# Altium integrated library NSC LDO.IntLib: 1202 symbols (part 22 of 27)
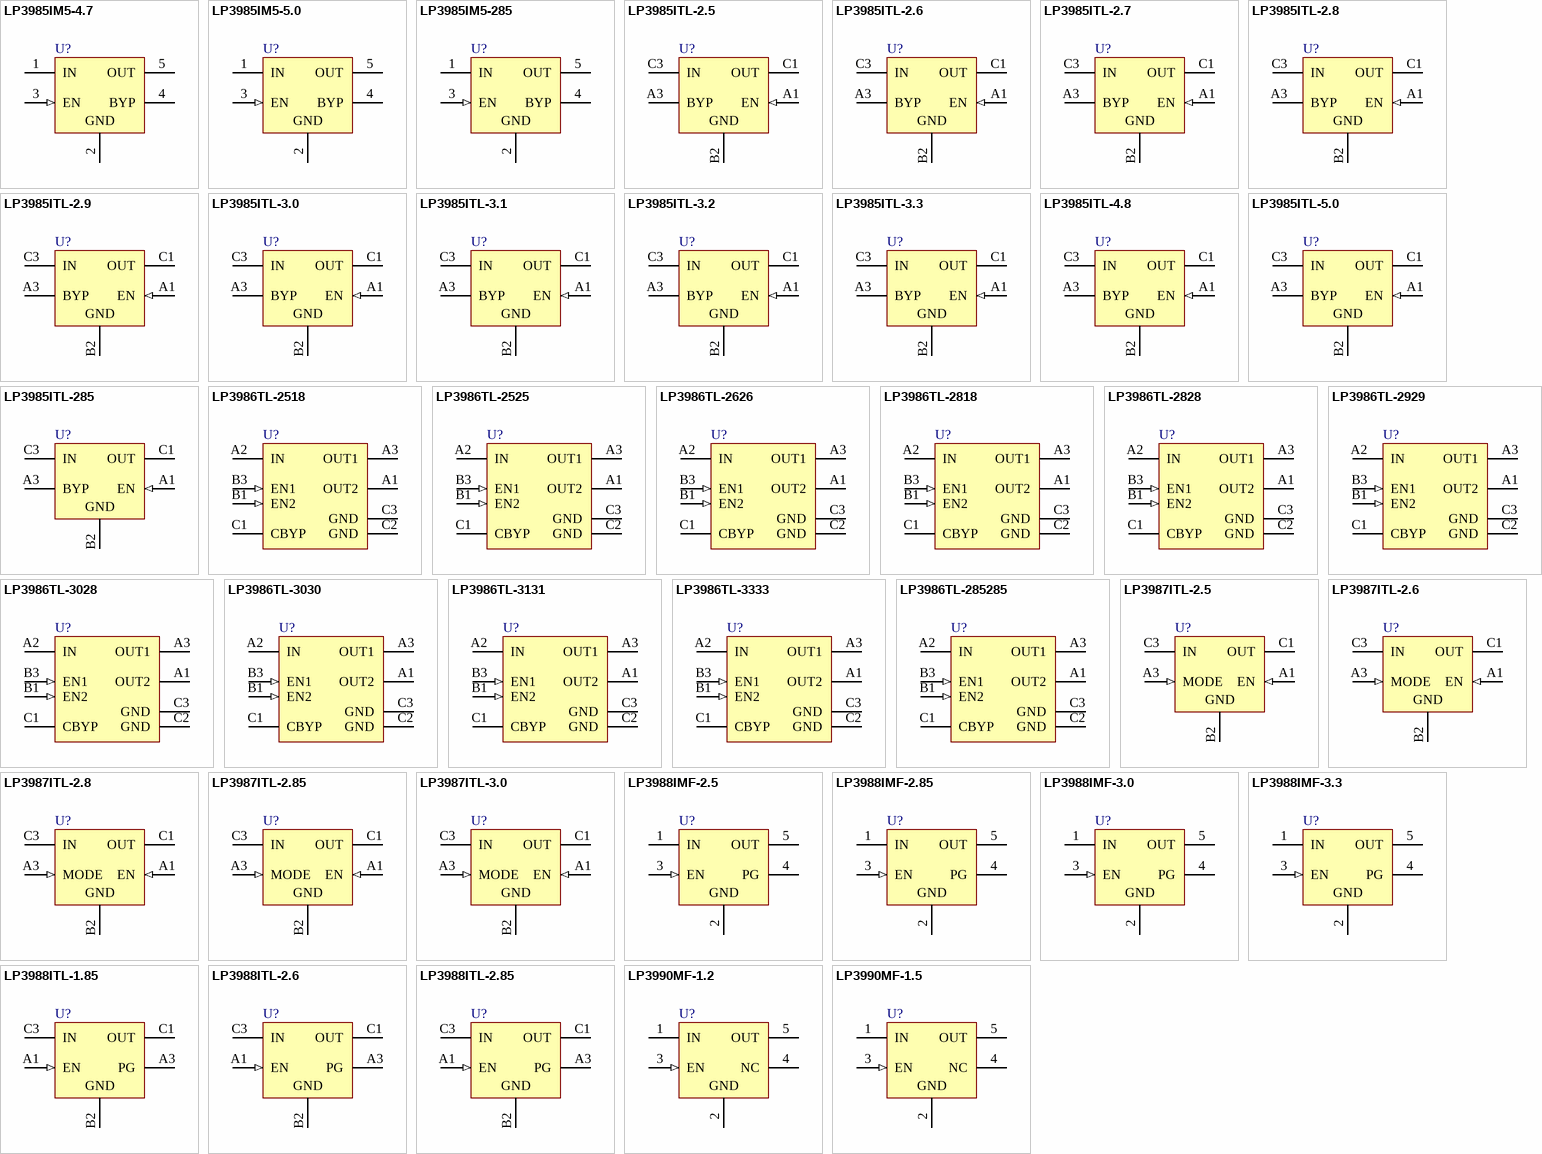
[diagram p51: symbols LP3985IM5-4.7 to LP3990MF-1.5]

## LP3986TL-3333
designator U?
Dual Micropower 150 mA Ultra Low-Dropout CMOS Voltage Regulators in micro SMD Package; PartNumber: LP3986TL-3333; Manufacturer: National Semiconductor; CompType: LDO IC; PackageTopMarking: XVD*I 17; Published: 4-Dec-2008; DatasheetVersion: Feb-2007; PackageVersion: revC, Jan-2004; PackageReference: TLA08CCA; Publisher: Altium Limited; PackageDescription: Thin Micro SMD, 8 Bump (Large), 0.5mm Pitch; RoHS: Y; PinCount: 8; DigiKeyPartNumber: LP3986TL-3333CT-ND; Code_JEDEC: MO-211-DD; ComponentLink1Description: LP3986 Datasheet; ComponentLink1URL: http://www.national.com/ds/LP/LP3986.pdf; ComponentLink2Description: LP3986 Web Page; ComponentLink2URL: http://www.national.com/pf/LP/LP3986.html; ComponentLink3Description: TLA08CCA Package Page; ComponentLink3URL: http://www.national.com/packaging/folders/tla08cca.html
footprint TLA08CCA (Micro SMD, 8-Leads, Body 1.57x1.57mm, Pitch 0.5mm, NSC Recommended)
pins: A1 OUT2 (power), A2 IN (power), A3 OUT1 (power), B1 EN2 (in), B3 EN1 (in), C1 CBYP, C2 GND (power), C3 GND (power)

## LP3986TL-285285
designator U?
Dual Micropower 150 mA Ultra Low-Dropout CMOS Voltage Regulators in micro SMD Package; PartNumber: LP3986TL-285285; Manufacturer: National Semiconductor; CompType: LDO IC; PackageTopMarking: XVD*I 11; Published: 4-Dec-2008; DatasheetVersion: Feb-2007; PackageVersion: revC, Jan-2004; PackageReference: TLA08CCA; Publisher: Altium Limited; PackageDescription: Thin Micro SMD, 8 Bump (Large), 0.5mm Pitch; RoHS: Y; PinCount: 8; DigiKeyPartNumber: LP3986TL-285285CT-ND; Code_JEDEC: MO-211-DD; ComponentLink1Description: LP3986 Datasheet; ComponentLink1URL: http://www.national.com/ds/LP/LP3986.pdf; ComponentLink2Description: LP3986 Web Page; ComponentLink2URL: http://www.national.com/pf/LP/LP3986.html; ComponentLink3Description: TLA08CCA Package Page; ComponentLink3URL: http://www.national.com/packaging/folders/tla08cca.html
footprint TLA08CCA (Micro SMD, 8-Leads, Body 1.57x1.57mm, Pitch 0.5mm, NSC Recommended)
pins: A1 OUT2 (power), A2 IN (power), A3 OUT1 (power), B1 EN2 (in), B3 EN1 (in), C1 CBYP, C2 GND (power), C3 GND (power)

## LP3987ITL-2.5
designator U?
Micropower micro SMD 150 mA Ultra Low-Dropout CMOS Voltage Regulators with Sleep MODE; PartNumber: LP3987ITL-2.5; Manufacturer: National Semiconductor; CompType: LDO IC; PackageTopMarking: XV*I 7; Published: 4-Dec-2008; DatasheetVersion: Feb-2007; PackageVersion: revC, Feb-2005; PackageReference: TLA05AEA; Publisher: Altium Limited; PackageDescription: Thin Micro SMD, 5 Bump (Large), 0.5mm Pitch; RoHS: O; PinCount: 5; DigiKeyPartNumber: LP3987ITL-2.5CT-ND; ComponentLink1Description: LP3987 Datasheet; ComponentLink1URL: http://www.national.com/ds/LP/LP3987.pdf; ComponentLink2Description: LP3987 Web Page; ComponentLink2URL: http://www.national.com/pf/LP/LP3987.html; ComponentLink3Description: TLA05AEA Package Page; ComponentLink3URL: http://www.national.com/packaging/folders/tla05aea.html
footprint TLA05AEA (Micro SMD, 5-Leads, Body 1.45x1.01mm, Pitch 0.5mm, NSC Recommended)
pins: A1 EN (in), A3 MODE (in), B2 GND (power), C1 OUT (power), C3 IN (power)

## LP3987ITL-2.6
designator U?
Micropower micro SMD 150 mA Ultra Low-Dropout CMOS Voltage Regulators with Sleep MODE; PartNumber: LP3987ITL-2.6; Manufacturer: National Semiconductor; CompType: LDO IC; PackageTopMarking: XV*I 7; Published: 4-Dec-2008; DatasheetVersion: Feb-2007; PackageVersion: revC, Feb-2005; PackageReference: TLA05AEA; Publisher: Altium Limited; PackageDescription: Thin Micro SMD, 5 Bump (Large), 0.5mm Pitch; RoHS: O; PinCount: 5; DigiKeyPartNumber: LP3987ITL-2.6CT-ND; ComponentLink1Description: LP3987 Datasheet; ComponentLink1URL: http://www.national.com/ds/LP/LP3987.pdf; ComponentLink2Description: LP3987 Web Page; ComponentLink2URL: http://www.national.com/pf/LP/LP3987.html; ComponentLink3Description: TLA05AEA Package Page; ComponentLink3URL: http://www.national.com/packaging/folders/tla05aea.html
footprint TLA05AEA (Micro SMD, 5-Leads, Body 1.45x1.01mm, Pitch 0.5mm, NSC Recommended)
pins: A1 EN (in), A3 MODE (in), B2 GND (power), C1 OUT (power), C3 IN (power)

## LP3987ITL-2.8
designator U?
Micropower micro SMD 150 mA Ultra Low-Dropout CMOS Voltage Regulators with Sleep MODE; PartNumber: LP3987ITL-2.8; Manufacturer: National Semiconductor; CompType: LDO IC; PackageTopMarking: XV*I 7; Published: 4-Dec-2008; DatasheetVersion: Feb-2007; PackageVersion: revC, Feb-2005; PackageReference: TLA05AEA; Publisher: Altium Limited; PackageDescription: Thin Micro SMD, 5 Bump (Large), 0.5mm Pitch; RoHS: O; PinCount: 5; DigiKeyPartNumber: LP3987ITL-2.8CT-ND; ComponentLink1Description: LP3987 Datasheet; ComponentLink1URL: http://www.national.com/ds/LP/LP3987.pdf; ComponentLink2Description: LP3987 Web Page; ComponentLink2URL: http://www.national.com/pf/LP/LP3987.html; ComponentLink3Description: TLA05AEA Package Page; ComponentLink3URL: http://www.national.com/packaging/folders/tla05aea.html
footprint TLA05AEA (Micro SMD, 5-Leads, Body 1.45x1.01mm, Pitch 0.5mm, NSC Recommended)
pins: A1 EN (in), A3 MODE (in), B2 GND (power), C1 OUT (power), C3 IN (power)

## LP3987ITL-2.85
designator U?
Micropower micro SMD 150 mA Ultra Low-Dropout CMOS Voltage Regulators with Sleep MODE; PartNumber: LP3987ITL-2.85; Manufacturer: National Semiconductor; CompType: LDO IC; PackageTopMarking: XV*I 7; Published: 4-Dec-2008; DatasheetVersion: Feb-2007; PackageVersion: revC, Feb-2005; PackageReference: TLA05AEA; Publisher: Altium Limited; PackageDescription: Thin Micro SMD, 5 Bump (Large), 0.5mm Pitch; RoHS: Y; PinCount: 5; DigiKeyPartNumber: LP3987ITL-2.85CT-ND; ComponentLink1Description: LP3987 Datasheet; ComponentLink1URL: http://www.national.com/ds/LP/LP3987.pdf; ComponentLink2Description: LP3987 Web Page; ComponentLink2URL: http://www.national.com/pf/LP/LP3987.html; ComponentLink3Description: TLA05AEA Package Page; ComponentLink3URL: http://www.national.com/packaging/folders/tla05aea.html
footprint TLA05AEA (Micro SMD, 5-Leads, Body 1.45x1.01mm, Pitch 0.5mm, NSC Recommended)
pins: A1 EN (in), A3 MODE (in), B2 GND (power), C1 OUT (power), C3 IN (power)

## LP3987ITL-3.0
designator U?
Micropower micro SMD 150 mA Ultra Low-Dropout CMOS Voltage Regulators with Sleep MODE; PartNumber: LP3987ITL-3.0; Manufacturer: National Semiconductor; CompType: LDO IC; PackageTopMarking: XV*I 7; Published: 4-Dec-2008; DatasheetVersion: Feb-2007; PackageVersion: revC, Feb-2005; PackageReference: TLA05AEA; Publisher: Altium Limited; PackageDescription: Thin Micro SMD, 5 Bump (Large), 0.5mm Pitch; RoHS: Y; PinCount: 5; DigiKeyPartNumber: LP3987ITL-3.0CT-ND; ComponentLink1Description: LP3987 Datasheet; ComponentLink1URL: http://www.national.com/ds/LP/LP3987.pdf; ComponentLink2Description: LP3987 Web Page; ComponentLink2URL: http://www.national.com/pf/LP/LP3987.html; ComponentLink3Description: TLA05AEA Package Page; ComponentLink3URL: http://www.national.com/packaging/folders/tla05aea.html
footprint TLA05AEA (Micro SMD, 5-Leads, Body 1.45x1.01mm, Pitch 0.5mm, NSC Recommended)
pins: A1 EN (in), A3 MODE (in), B2 GND (power), C1 OUT (power), C3 IN (power)

## LP3988IMF-2.5
designator U?
Micropower, 150mA Ultra Low-Dropout CMOS Voltage Regulator With Power Good; PartNumber: LP3988IMF-2.5; Manufacturer: National Semiconductor; CompType: LDO IC; PackageTopMarking: LFSB*XTT; Published: 4-Dec-2008; DatasheetVersion: Aug-2004; PackageVersion: revD, Aug-2008; PackageReference: MF05A; Publisher: Altium Limited; PackageDescription: Molded SOT-23, .115 x .063 x .040 in Body, 5 Lead, .0375 in Pitch; RoHS: O; PinCount: 5; DigiKeyPartNumber: LP3988IMF-2.5CT-ND; Code_IPC: SOT23-5; ComponentLink1Description: LP3988 Datasheet; ComponentLink1URL: http://www.national.com/ds/LP/LP3988.pdf; ComponentLink2Description: LP3988 Web Page; ComponentLink2URL: http://www.national.com/pf/LP/LP3988.html; ComponentLink3Description: MF05A Package Page; ComponentLink3URL: http://www.national.com/packaging/folders/mf05a.html
footprint MF05A_N (SOT23, 5-Leads, Body 2.9x1.6mm, Pitch 0.95mm, Lead Span 2.8mm, IPC Medium Density)
footprint MF05A_L (SOT23, 5-Leads, Body 2.9x1.6mm, Pitch 0.95mm, Lead Span 2.8mm, IPC High Density)
footprint MF05A_M (SOT23, 5-Leads, Body 2.9x1.6mm, Pitch 0.95mm, Lead Span 2.8mm, IPC Low Density)
pins: 1 IN (power), 2 GND (power), 3 EN (in), 4 PG (oc), 5 OUT (power)

## LP3988IMF-2.85
designator U?
Micropower, 150mA Ultra Low-Dropout CMOS Voltage Regulator With Power Good; PartNumber: LP3988IMF-2.85; Manufacturer: National Semiconductor; CompType: LDO IC; PackageTopMarking: LDLB*XTT; Published: 4-Dec-2008; DatasheetVersion: Aug-2004; PackageVersion: revD, Aug-2008; PackageReference: MF05A; Publisher: Altium Limited; PackageDescription: Molded SOT-23, .115 x .063 x .040 in Body, 5 Lead, .0375 in Pitch; RoHS: Y; PinCount: 5; DigiKeyPartNumber: LP3988IMF-2.85CT-ND; Code_IPC: SOT23-5; ComponentLink1Description: LP3988 Datasheet; ComponentLink1URL: http://www.national.com/ds/LP/LP3988.pdf; ComponentLink2Description: LP3988 Web Page; ComponentLink2URL: http://www.national.com/pf/LP/LP3988.html; ComponentLink3Description: MF05A Package Page; ComponentLink3URL: http://www.national.com/packaging/folders/mf05a.html
footprint MF05A_N (SOT23, 5-Leads, Body 2.9x1.6mm, Pitch 0.95mm, Lead Span 2.8mm, IPC Medium Density)
footprint MF05A_L (SOT23, 5-Leads, Body 2.9x1.6mm, Pitch 0.95mm, Lead Span 2.8mm, IPC High Density)
footprint MF05A_M (SOT23, 5-Leads, Body 2.9x1.6mm, Pitch 0.95mm, Lead Span 2.8mm, IPC Low Density)
pins: 1 IN (power), 2 GND (power), 3 EN (in), 4 PG (oc), 5 OUT (power)

## LP3988IMF-3.0
designator U?
Micropower, 150mA Ultra Low-Dropout CMOS Voltage Regulator With Power Good; PartNumber: LP3988IMF-3.0; Manufacturer: National Semiconductor; CompType: LDO IC; PackageTopMarking: LFAB*XTT; Published: 4-Dec-2008; DatasheetVersion: Aug-2004; PackageVersion: revD, Aug-2008; PackageReference: MF05A; Publisher: Altium Limited; PackageDescription: Molded SOT-23, .115 x .063 x .040 in Body, 5 Lead, .0375 in Pitch; RoHS: O; PinCount: 5; DigiKeyPartNumber: LP3988IMF-3.0CT-ND; Code_IPC: SOT23-5; ComponentLink1Description: LP3988 Datasheet; ComponentLink1URL: http://www.national.com/ds/LP/LP3988.pdf; ComponentLink2Description: LP3988 Web Page; ComponentLink2URL: http://www.national.com/pf/LP/LP3988.html; ComponentLink3Description: MF05A Package Page; ComponentLink3URL: http://www.national.com/packaging/folders/mf05a.html
footprint MF05A_N (SOT23, 5-Leads, Body 2.9x1.6mm, Pitch 0.95mm, Lead Span 2.8mm, IPC Medium Density)
footprint MF05A_L (SOT23, 5-Leads, Body 2.9x1.6mm, Pitch 0.95mm, Lead Span 2.8mm, IPC High Density)
footprint MF05A_M (SOT23, 5-Leads, Body 2.9x1.6mm, Pitch 0.95mm, Lead Span 2.8mm, IPC Low Density)
pins: 1 IN (power), 2 GND (power), 3 EN (in), 4 PG (oc), 5 OUT (power)

## LP3988IMF-3.3
designator U?
Micropower, 150mA Ultra Low-Dropout CMOS Voltage Regulator With Power Good; PartNumber: LP3988IMF-3.3; Manufacturer: National Semiconductor; CompType: LDO IC; PackageTopMarking: LH5B*XTT; Published: 4-Dec-2008; DatasheetVersion: Aug-2004; PackageVersion: revD, Aug-2008; PackageReference: MF05A; Publisher: Altium Limited; PackageDescription: Molded SOT-23, .115 x .063 x .040 in Body, 5 Lead, .0375 in Pitch; RoHS: O; PinCount: 5; DigiKeyPartNumber: LP3988IMF-3.3CT-ND; Code_IPC: SOT23-5; ComponentLink1Description: LP3988 Datasheet; ComponentLink1URL: http://www.national.com/ds/LP/LP3988.pdf; ComponentLink2Description: LP3988 Web Page; ComponentLink2URL: http://www.national.com/pf/LP/LP3988.html; ComponentLink3Description: MF05A Package Page; ComponentLink3URL: http://www.national.com/packaging/folders/mf05a.html
footprint MF05A_N (SOT23, 5-Leads, Body 2.9x1.6mm, Pitch 0.95mm, Lead Span 2.8mm, IPC Medium Density)
footprint MF05A_L (SOT23, 5-Leads, Body 2.9x1.6mm, Pitch 0.95mm, Lead Span 2.8mm, IPC High Density)
footprint MF05A_M (SOT23, 5-Leads, Body 2.9x1.6mm, Pitch 0.95mm, Lead Span 2.8mm, IPC Low Density)
pins: 1 IN (power), 2 GND (power), 3 EN (in), 4 PG (oc), 5 OUT (power)

## LP3988ITL-1.85
designator U?
Micropower, 150mA Ultra Low-Dropout CMOS Voltage Regulator With Power Good; PartNumber: LP3988ITL-1.85; Manufacturer: National Semiconductor; CompType: LDO IC; PackageTopMarking: XV*I 8; Published: 4-Dec-2008; DatasheetVersion: Aug-2004; PackageVersion: revC, Feb-2005; PackageReference: TLA05AEA; Publisher: Altium Limited; PackageDescription: Thin Micro SMD, 5 Bump (Large), 0.5mm Pitch; RoHS: Y; PinCount: 5; DigiKeyPartNumber: LP3988ITL-1.85CT-ND; ComponentLink1Description: LP3988 Datasheet; ComponentLink1URL: http://www.national.com/ds/LP/LP3988.pdf; ComponentLink2Description: LP3988 Web Page; ComponentLink2URL: http://www.national.com/pf/LP/LP3988.html; ComponentLink3Description: TLA05AEA Package Page; ComponentLink3URL: http://www.national.com/packaging/folders/tla05aea.html
footprint TLA05AEA (Micro SMD, 5-Leads, Body 1.45x1.01mm, Pitch 0.5mm, NSC Recommended)
pins: A1 EN (in), A3 PG (oc), B2 GND (power), C1 OUT (power), C3 IN (power)

## LP3988ITL-2.6
designator U?
Micropower, 150mA Ultra Low-Dropout CMOS Voltage Regulator With Power Good; PartNumber: LP3988ITL-2.6; Manufacturer: National Semiconductor; CompType: LDO IC; PackageTopMarking: XV*I 8; Published: 4-Dec-2008; DatasheetVersion: Aug-2004; PackageVersion: revC, Feb-2005; PackageReference: TLA05AEA; Publisher: Altium Limited; PackageDescription: Thin Micro SMD, 5 Bump (Large), 0.5mm Pitch; RoHS: Y; PinCount: 5; DigiKeyPartNumber: LP3988ITL-2.6CT-ND; ComponentLink1Description: LP3988 Datasheet; ComponentLink1URL: http://www.national.com/ds/LP/LP3988.pdf; ComponentLink2Description: LP3988 Web Page; ComponentLink2URL: http://www.national.com/pf/LP/LP3988.html; ComponentLink3Description: TLA05AEA Package Page; ComponentLink3URL: http://www.national.com/packaging/folders/tla05aea.html
footprint TLA05AEA (Micro SMD, 5-Leads, Body 1.45x1.01mm, Pitch 0.5mm, NSC Recommended)
pins: A1 EN (in), A3 PG (oc), B2 GND (power), C1 OUT (power), C3 IN (power)

## LP3988ITL-2.85
designator U?
Micropower, 150mA Ultra Low-Dropout CMOS Voltage Regulator With Power Good; PartNumber: LP3988ITL-2.85; Manufacturer: National Semiconductor; CompType: LDO IC; PackageTopMarking: XV*I 8; Published: 4-Dec-2008; DatasheetVersion: Aug-2004; PackageVersion: revC, Feb-2005; PackageReference: TLA05AEA; Publisher: Altium Limited; PackageDescription: Thin Micro SMD, 5 Bump (Large), 0.5mm Pitch; RoHS: Y; PinCount: 5; DigiKeyPartNumber: LP3988ITL-2.85CT-ND; ComponentLink1Description: LP3988 Datasheet; ComponentLink1URL: http://www.national.com/ds/LP/LP3988.pdf; ComponentLink2Description: LP3988 Web Page; ComponentLink2URL: http://www.national.com/pf/LP/LP3988.html; ComponentLink3Description: TLA05AEA Package Page; ComponentLink3URL: http://www.national.com/packaging/folders/tla05aea.html
footprint TLA05AEA (Micro SMD, 5-Leads, Body 1.45x1.01mm, Pitch 0.5mm, NSC Recommended)
pins: A1 EN (in), A3 PG (oc), B2 GND (power), C1 OUT (power), C3 IN (power)

## LP3990MF-1.2
designator U?
150mA Linear Voltage Regulator for Digital Applications; PartNumber: LP3990MF-1.2; Manufacturer: National Semiconductor; CompType: LDO IC; PackageTopMarking: SCDB*XTT; Published: 4-Dec-2008; DatasheetVersion: Oct-2005; PackageVersion: revD, Aug-2008; PackageReference: MF05A; Publisher: Altium Limited; PackageDescription: Molded SOT-23, .115 x .063 x .040 in Body, 5 Lead, .0375 in Pitch; RoHS: Y; PinCount: 5; DigiKeyPartNumber: LP3990MF-1.2CT-ND; Code_IPC: SOT23-5; ComponentLink1Description: LP3990 Datasheet; ComponentLink1URL: http://www.national.com/ds/LP/LP3990.pdf; ComponentLink2Description: LP3990 Web Page; ComponentLink2URL: http://www.national.com/pf/LP/LP3990.html; ComponentLink3Description: MF05A Package Page; ComponentLink3URL: http://www.national.com/packaging/folders/mf05a.html
footprint MF05A_N (SOT23, 5-Leads, Body 2.9x1.6mm, Pitch 0.95mm, Lead Span 2.8mm, IPC Medium Density)
footprint MF05A_L (SOT23, 5-Leads, Body 2.9x1.6mm, Pitch 0.95mm, Lead Span 2.8mm, IPC High Density)
footprint MF05A_M (SOT23, 5-Leads, Body 2.9x1.6mm, Pitch 0.95mm, Lead Span 2.8mm, IPC Low Density)
pins: 1 IN (power), 2 GND (power), 3 EN (in), 4 NC, 5 OUT (power)

## LP3990MF-1.5
designator U?
150mA Linear Voltage Regulator for Digital Applications; PartNumber: LP3990MF-1.5; Manufacturer: National Semiconductor; CompType: LDO IC; PackageTopMarking: SCEB*XTT; Published: 4-Dec-2008; DatasheetVersion: Oct-2005; PackageVersion: revD, Aug-2008; PackageReference: MF05A; Publisher: Altium Limited; PackageDescription: Molded SOT-23, .115 x .063 x .040 in Body, 5 Lead, .0375 in Pitch; RoHS: Y; PinCount: 5; DigiKeyPartNumber: LP3990MF-1.5CT-ND; Code_IPC: SOT23-5; ComponentLink1Description: LP3990 Datasheet; ComponentLink1URL: http://www.national.com/ds/LP/LP3990.pdf; ComponentLink2Description: LP3990 Web Page; ComponentLink2URL: http://www.national.com/pf/LP/LP3990.html; ComponentLink3Description: MF05A Package Page; ComponentLink3URL: http://www.national.com/packaging/folders/mf05a.html
footprint MF05A_N (SOT23, 5-Leads, Body 2.9x1.6mm, Pitch 0.95mm, Lead Span 2.8mm, IPC Medium Density)
footprint MF05A_L (SOT23, 5-Leads, Body 2.9x1.6mm, Pitch 0.95mm, Lead Span 2.8mm, IPC High Density)
footprint MF05A_M (SOT23, 5-Leads, Body 2.9x1.6mm, Pitch 0.95mm, Lead Span 2.8mm, IPC Low Density)
pins: 1 IN (power), 2 GND (power), 3 EN (in), 4 NC, 5 OUT (power)

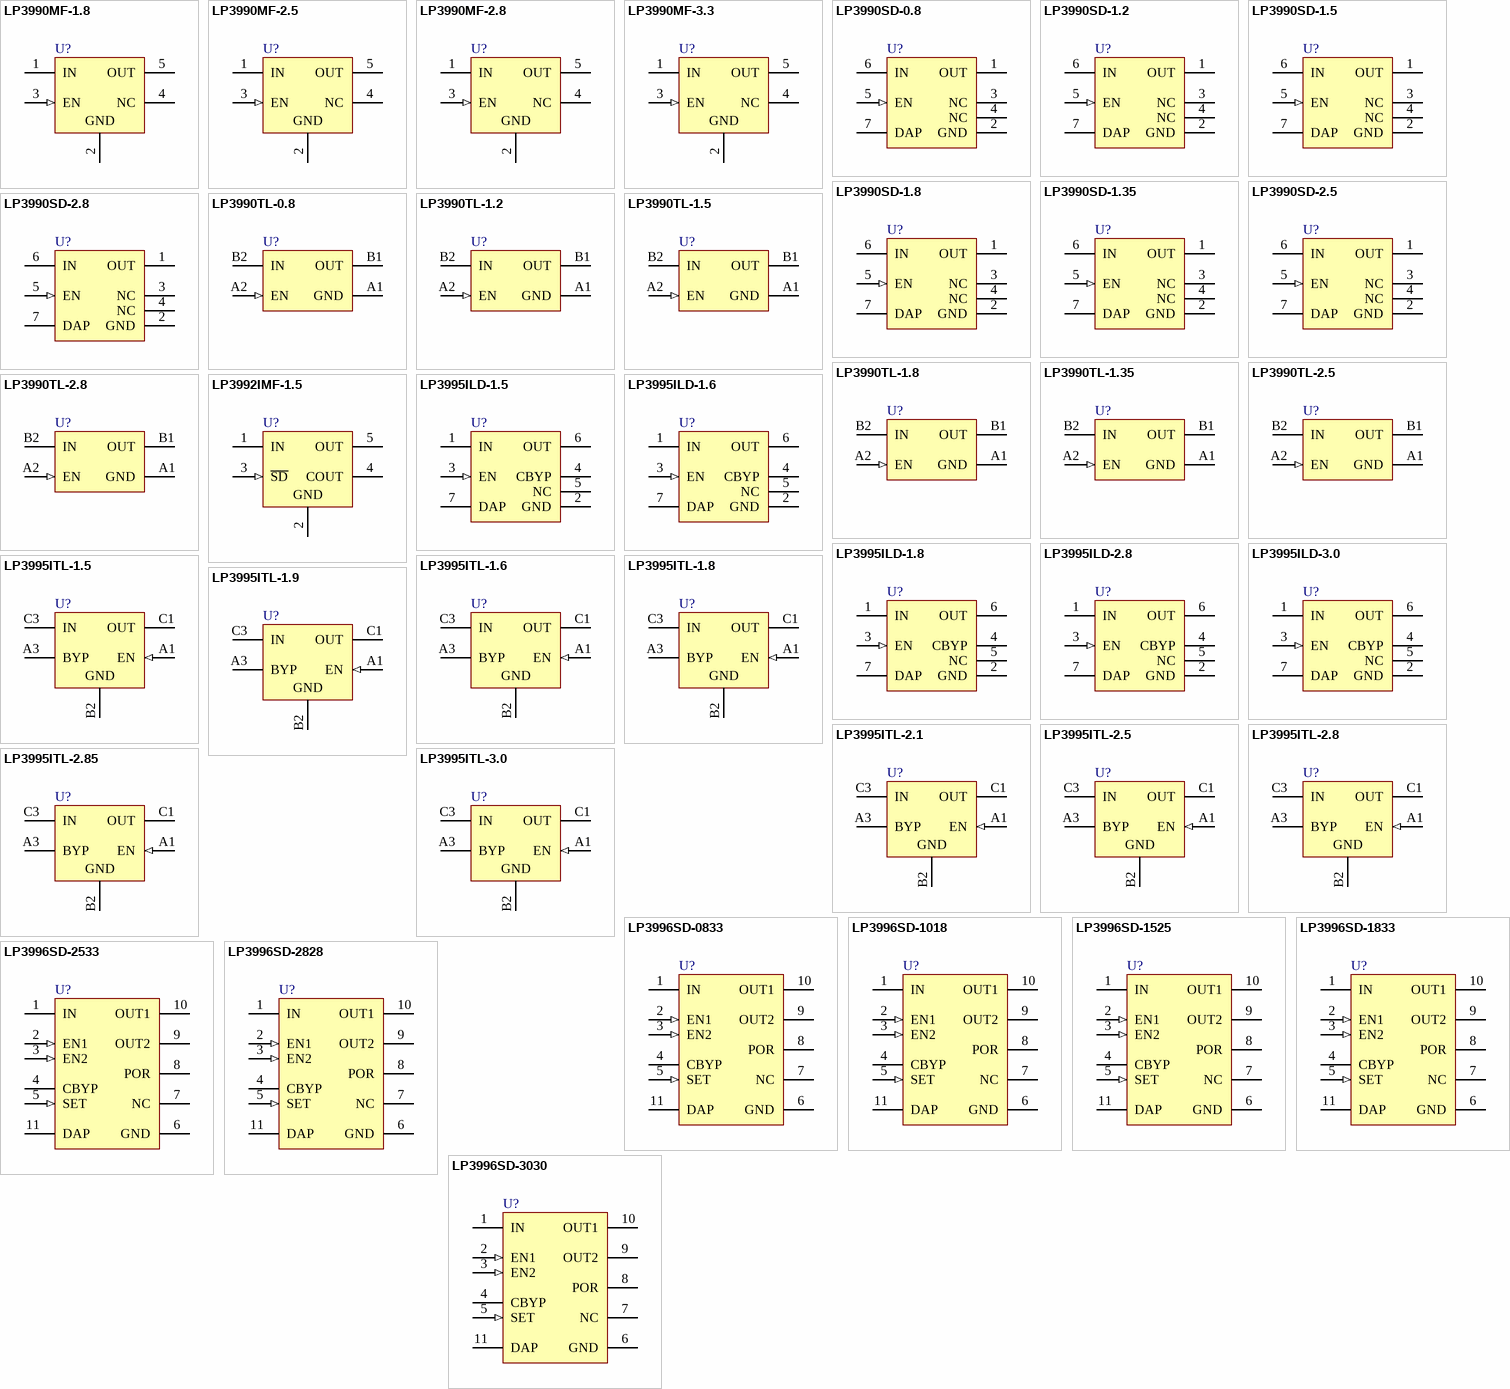
[diagram p24: symbols LP3990MF-1.8 to LP3996SD-3030]

## LP3990MF-1.8
designator U?
150mA Linear Voltage Regulator for Digital Applications; PartNumber: LP3990MF-1.8; Manufacturer: National Semiconductor; CompType: LDO IC; PackageTopMarking: SCFB*XTT; Published: 4-Dec-2008; DatasheetVersion: Oct-2005; PackageVersion: revD, Aug-2008; PackageReference: MF05A; Publisher: Altium Limited; PackageDescription: Molded SOT-23, .115 x .063 x .040 in Body, 5 Lead, .0375 in Pitch; RoHS: Y; PinCount: 5; DigiKeyPartNumber: LP3990MF-1.8CT-ND; Code_IPC: SOT23-5; ComponentLink1Description: LP3990 Datasheet; ComponentLink1URL: http://www.national.com/ds/LP/LP3990.pdf; ComponentLink2Description: LP3990 Web Page; ComponentLink2URL: http://www.national.com/pf/LP/LP3990.html; ComponentLink3Description: MF05A Package Page; ComponentLink3URL: http://www.national.com/packaging/folders/mf05a.html
footprint MF05A_N (SOT23, 5-Leads, Body 2.9x1.6mm, Pitch 0.95mm, Lead Span 2.8mm, IPC Medium Density)
footprint MF05A_L (SOT23, 5-Leads, Body 2.9x1.6mm, Pitch 0.95mm, Lead Span 2.8mm, IPC High Density)
footprint MF05A_M (SOT23, 5-Leads, Body 2.9x1.6mm, Pitch 0.95mm, Lead Span 2.8mm, IPC Low Density)
pins: 1 IN (power), 2 GND (power), 3 EN (in), 4 NC, 5 OUT (power)

## LP3990MF-2.5
designator U?
150mA Linear Voltage Regulator for Digital Applications; PartNumber: LP3990MF-2.5; Manufacturer: National Semiconductor; CompType: LDO IC; PackageTopMarking: SCJB*XTT; Published: 4-Dec-2008; DatasheetVersion: Oct-2005; PackageVersion: revD, Aug-2008; PackageReference: MF05A; Publisher: Altium Limited; PackageDescription: Molded SOT-23, .115 x .063 x .040 in Body, 5 Lead, .0375 in Pitch; RoHS: Y; PinCount: 5; DigiKeyPartNumber: LP3990MF-2.5CT-ND; Code_IPC: SOT23-5; ComponentLink1Description: LP3990 Datasheet; ComponentLink1URL: http://www.national.com/ds/LP/LP3990.pdf; ComponentLink2Description: LP3990 Web Page; ComponentLink2URL: http://www.national.com/pf/LP/LP3990.html; ComponentLink3Description: MF05A Package Page; ComponentLink3URL: http://www.national.com/packaging/folders/mf05a.html
footprint MF05A_N (SOT23, 5-Leads, Body 2.9x1.6mm, Pitch 0.95mm, Lead Span 2.8mm, IPC Medium Density)
footprint MF05A_L (SOT23, 5-Leads, Body 2.9x1.6mm, Pitch 0.95mm, Lead Span 2.8mm, IPC High Density)
footprint MF05A_M (SOT23, 5-Leads, Body 2.9x1.6mm, Pitch 0.95mm, Lead Span 2.8mm, IPC Low Density)
pins: 1 IN (power), 2 GND (power), 3 EN (in), 4 NC, 5 OUT (power)

## LP3990MF-2.8
designator U?
150mA Linear Voltage Regulator for Digital Applications; PartNumber: LP3990MF-2.8; Manufacturer: National Semiconductor; CompType: LDO IC; PackageTopMarking: SCKB*XTT; Published: 4-Dec-2008; DatasheetVersion: Oct-2005; PackageVersion: revD, Aug-2008; PackageReference: MF05A; Publisher: Altium Limited; PackageDescription: Molded SOT-23, .115 x .063 x .040 in Body, 5 Lead, .0375 in Pitch; RoHS: Y; PinCount: 5; DigiKeyPartNumber: LP3990MF-2.8CT-ND; Code_IPC: SOT23-5; ComponentLink1Description: LP3990 Datasheet; ComponentLink1URL: http://www.national.com/ds/LP/LP3990.pdf; ComponentLink2Description: LP3990 Web Page; ComponentLink2URL: http://www.national.com/pf/LP/LP3990.html; ComponentLink3Description: MF05A Package Page; ComponentLink3URL: http://www.national.com/packaging/folders/mf05a.html
footprint MF05A_N (SOT23, 5-Leads, Body 2.9x1.6mm, Pitch 0.95mm, Lead Span 2.8mm, IPC Medium Density)
footprint MF05A_L (SOT23, 5-Leads, Body 2.9x1.6mm, Pitch 0.95mm, Lead Span 2.8mm, IPC High Density)
footprint MF05A_M (SOT23, 5-Leads, Body 2.9x1.6mm, Pitch 0.95mm, Lead Span 2.8mm, IPC Low Density)
pins: 1 IN (power), 2 GND (power), 3 EN (in), 4 NC, 5 OUT (power)

## LP3990MF-3.3
designator U?
150mA Linear Voltage Regulator for Digital Applications; PartNumber: LP3990MF-3.3; Manufacturer: National Semiconductor; CompType: LDO IC; PackageTopMarking: SCLB*XTT; Published: 4-Dec-2008; DatasheetVersion: Oct-2005; PackageVersion: revD, Aug-2008; PackageReference: MF05A; Publisher: Altium Limited; PackageDescription: Molded SOT-23, .115 x .063 x .040 in Body, 5 Lead, .0375 in Pitch; RoHS: Y; PinCount: 5; DigiKeyPartNumber: LP3990MF-3.3CT-ND; Code_IPC: SOT23-5; ComponentLink1Description: LP3990 Datasheet; ComponentLink1URL: http://www.national.com/ds/LP/LP3990.pdf; ComponentLink2Description: LP3990 Web Page; ComponentLink2URL: http://www.national.com/pf/LP/LP3990.html; ComponentLink3Description: MF05A Package Page; ComponentLink3URL: http://www.national.com/packaging/folders/mf05a.html
footprint MF05A_N (SOT23, 5-Leads, Body 2.9x1.6mm, Pitch 0.95mm, Lead Span 2.8mm, IPC Medium Density)
footprint MF05A_L (SOT23, 5-Leads, Body 2.9x1.6mm, Pitch 0.95mm, Lead Span 2.8mm, IPC High Density)
footprint MF05A_M (SOT23, 5-Leads, Body 2.9x1.6mm, Pitch 0.95mm, Lead Span 2.8mm, IPC Low Density)
pins: 1 IN (power), 2 GND (power), 3 EN (in), 4 NC, 5 OUT (power)

## LP3990SD-0.8
designator U?
150mA Linear Voltage Regulator for Digital Applications; PartNumber: LP3990SD-0.8; Manufacturer: National Semiconductor; CompType: LDO IC; PackageTopMarking: ZXYTT*L085B; Published: 4-Dec-2008; DatasheetVersion: Oct-2005; PackageVersion: revA, Jul-2003; PackageReference: SDE06A; Publisher: Altium Limited; PackageDescription: LLP, Plastic, Dual, 3 x 3 x 0.8mm Body, 6 Lead, 0.95mm Pitch, No Pullback; RoHS: Y; PinCount: 6; DigiKeyPartNumber: LP3990SD-0.8CT-ND; ComponentLink1Description: LP3990 Datasheet; ComponentLink1URL: http://www.national.com/ds/LP/LP3990.pdf; ComponentLink2Description: LP3990 Web Page; ComponentLink2URL: http://www.national.com/pf/LP/LP3990.html; ComponentLink3Description: SDE06A Package Page; ComponentLink3URL: http://www.national.com/packaging/folders/sde06a.html
footprint SDE06A_full (SON, 6-Leads, Body 3x3 mm, Pitch 0.95mm, Full Paste, NSC Recommended)
footprint SDE06A_quad (SON, 6-Leads, Body 3x3 mm, Pitch 0.95mm, Quad Paste, NSC Recommended)
pins: 1 OUT (power), 2 GND (power), 3 NC, 4 NC, 5 EN (in), 6 IN (power), 7 DAP (power)

## LP3990SD-1.2
designator U?
150mA Linear Voltage Regulator for Digital Applications; PartNumber: LP3990SD-1.2; Manufacturer: National Semiconductor; CompType: LDO IC; PackageTopMarking: ZXYTT*L086B; Published: 4-Dec-2008; DatasheetVersion: Oct-2005; PackageVersion: revA, Jul-2003; PackageReference: SDE06A; Publisher: Altium Limited; PackageDescription: LLP, Plastic, Dual, 3 x 3 x 0.8mm Body, 6 Lead, 0.95mm Pitch, No Pullback; RoHS: Y; PinCount: 6; DigiKeyPartNumber: LP3990SD-1.2CT-ND; ComponentLink1Description: LP3990 Datasheet; ComponentLink1URL: http://www.national.com/ds/LP/LP3990.pdf; ComponentLink2Description: LP3990 Web Page; ComponentLink2URL: http://www.national.com/pf/LP/LP3990.html; ComponentLink3Description: SDE06A Package Page; ComponentLink3URL: http://www.national.com/packaging/folders/sde06a.html
footprint SDE06A_full (SON, 6-Leads, Body 3x3 mm, Pitch 0.95mm, Full Paste, NSC Recommended)
footprint SDE06A_quad (SON, 6-Leads, Body 3x3 mm, Pitch 0.95mm, Quad Paste, NSC Recommended)
pins: 1 OUT (power), 2 GND (power), 3 NC, 4 NC, 5 EN (in), 6 IN (power), 7 DAP (power)

## LP3990SD-1.5
designator U?
150mA Linear Voltage Regulator for Digital Applications; PartNumber: LP3990SD-1.5; Manufacturer: National Semiconductor; CompType: LDO IC; PackageTopMarking: ZXYTT*L087B; Published: 4-Dec-2008; DatasheetVersion: Oct-2005; PackageVersion: revA, Jul-2003; PackageReference: SDE06A; Publisher: Altium Limited; PackageDescription: LLP, Plastic, Dual, 3 x 3 x 0.8mm Body, 6 Lead, 0.95mm Pitch, No Pullback; RoHS: Y; PinCount: 6; DigiKeyPartNumber: LP3990SD-1.5CT-ND; ComponentLink1Description: LP3990 Datasheet; ComponentLink1URL: http://www.national.com/ds/LP/LP3990.pdf; ComponentLink2Description: LP3990 Web Page; ComponentLink2URL: http://www.national.com/pf/LP/LP3990.html; ComponentLink3Description: SDE06A Package Page; ComponentLink3URL: http://www.national.com/packaging/folders/sde06a.html
footprint SDE06A_full (SON, 6-Leads, Body 3x3 mm, Pitch 0.95mm, Full Paste, NSC Recommended)
footprint SDE06A_quad (SON, 6-Leads, Body 3x3 mm, Pitch 0.95mm, Quad Paste, NSC Recommended)
pins: 1 OUT (power), 2 GND (power), 3 NC, 4 NC, 5 EN (in), 6 IN (power), 7 DAP (power)

## LP3990SD-1.8
designator U?
150mA Linear Voltage Regulator for Digital Applications; PartNumber: LP3990SD-1.8; Manufacturer: National Semiconductor; CompType: LDO IC; PackageTopMarking: ZXYTT*L088B; Published: 4-Dec-2008; DatasheetVersion: Oct-2005; PackageVersion: revA, Jul-2003; PackageReference: SDE06A; Publisher: Altium Limited; PackageDescription: LLP, Plastic, Dual, 3 x 3 x 0.8mm Body, 6 Lead, 0.95mm Pitch, No Pullback; RoHS: Y; PinCount: 6; DigiKeyPartNumber: LP3990SD-1.8CT-ND; ComponentLink1Description: LP3990 Datasheet; ComponentLink1URL: http://www.national.com/ds/LP/LP3990.pdf; ComponentLink2Description: LP3990 Web Page; ComponentLink2URL: http://www.national.com/pf/LP/LP3990.html; ComponentLink3Description: SDE06A Package Page; ComponentLink3URL: http://www.national.com/packaging/folders/sde06a.html
footprint SDE06A_full (SON, 6-Leads, Body 3x3 mm, Pitch 0.95mm, Full Paste, NSC Recommended)
footprint SDE06A_quad (SON, 6-Leads, Body 3x3 mm, Pitch 0.95mm, Quad Paste, NSC Recommended)
pins: 1 OUT (power), 2 GND (power), 3 NC, 4 NC, 5 EN (in), 6 IN (power), 7 DAP (power)

## LP3990SD-1.35
designator U?
150mA Linear Voltage Regulator for Digital Applications; PartNumber: LP3990SD-1.35; Manufacturer: National Semiconductor; CompType: LDO IC; PackageTopMarking: ZXYTT*L150B; Published: 4-Dec-2008; DatasheetVersion: Oct-2005; PackageVersion: revA, Jul-2003; PackageReference: SDE06A; Publisher: Altium Limited; PackageDescription: LLP, Plastic, Dual, 3 x 3 x 0.8mm Body, 6 Lead, 0.95mm Pitch, No Pullback; RoHS: Y; PinCount: 6; DigiKeyPartNumber: LP3990SD-1.35CT-ND; ComponentLink1Description: LP3990 Datasheet; ComponentLink1URL: http://www.national.com/ds/LP/LP3990.pdf; ComponentLink2Description: LP3990 Web Page; ComponentLink2URL: http://www.national.com/pf/LP/LP3990.html; ComponentLink3Description: SDE06A Package Page; ComponentLink3URL: http://www.national.com/packaging/folders/sde06a.html
footprint SDE06A_full (SON, 6-Leads, Body 3x3 mm, Pitch 0.95mm, Full Paste, NSC Recommended)
footprint SDE06A_quad (SON, 6-Leads, Body 3x3 mm, Pitch 0.95mm, Quad Paste, NSC Recommended)
pins: 1 OUT (power), 2 GND (power), 3 NC, 4 NC, 5 EN (in), 6 IN (power), 7 DAP (power)

## LP3990SD-2.5
designator U?
150mA Linear Voltage Regulator for Digital Applications; PartNumber: LP3990SD-2.5; Manufacturer: National Semiconductor; CompType: LDO IC; PackageTopMarking: ZXYTT*L090B; Published: 4-Dec-2008; DatasheetVersion: Oct-2005; PackageVersion: revA, Jul-2003; PackageReference: SDE06A; Publisher: Altium Limited; PackageDescription: LLP, Plastic, Dual, 3 x 3 x 0.8mm Body, 6 Lead, 0.95mm Pitch, No Pullback; RoHS: Y; PinCount: 6; DigiKeyPartNumber: LP3990SD-2.5CT-ND; ComponentLink1Description: LP3990 Datasheet; ComponentLink1URL: http://www.national.com/ds/LP/LP3990.pdf; ComponentLink2Description: LP3990 Web Page; ComponentLink2URL: http://www.national.com/pf/LP/LP3990.html; ComponentLink3Description: SDE06A Package Page; ComponentLink3URL: http://www.national.com/packaging/folders/sde06a.html
footprint SDE06A_full (SON, 6-Leads, Body 3x3 mm, Pitch 0.95mm, Full Paste, NSC Recommended)
footprint SDE06A_quad (SON, 6-Leads, Body 3x3 mm, Pitch 0.95mm, Quad Paste, NSC Recommended)
pins: 1 OUT (power), 2 GND (power), 3 NC, 4 NC, 5 EN (in), 6 IN (power), 7 DAP (power)

## LP3990SD-2.8
designator U?
150mA Linear Voltage Regulator for Digital Applications; PartNumber: LP3990SD-2.8; Manufacturer: National Semiconductor; CompType: LDO IC; PackageTopMarking: ZXYTT*L091B; Published: 4-Dec-2008; DatasheetVersion: Oct-2005; PackageVersion: revA, Jul-2003; PackageReference: SDE06A; Publisher: Altium Limited; PackageDescription: LLP, Plastic, Dual, 3 x 3 x 0.8mm Body, 6 Lead, 0.95mm Pitch, No Pullback; RoHS: Y; PinCount: 6; DigiKeyPartNumber: LP3990SD-2.8CT-ND; ComponentLink1Description: LP3990 Datasheet; ComponentLink1URL: http://www.national.com/ds/LP/LP3990.pdf; ComponentLink2Description: LP3990 Web Page; ComponentLink2URL: http://www.national.com/pf/LP/LP3990.html; ComponentLink3Description: SDE06A Package Page; ComponentLink3URL: http://www.national.com/packaging/folders/sde06a.html
footprint SDE06A_full (SON, 6-Leads, Body 3x3 mm, Pitch 0.95mm, Full Paste, NSC Recommended)
footprint SDE06A_quad (SON, 6-Leads, Body 3x3 mm, Pitch 0.95mm, Quad Paste, NSC Recommended)
pins: 1 OUT (power), 2 GND (power), 3 NC, 4 NC, 5 EN (in), 6 IN (power), 7 DAP (power)

## LP3990TL-0.8
designator U?
150mA Linear Voltage Regulator for Digital Applications; PartNumber: LP3990TL-0.8; Manufacturer: National Semiconductor; CompType: LDO IC; PackageTopMarking: X*I; Published: 4-Dec-2008; DatasheetVersion: Oct-2005; PackageVersion: revD, Mar-2005; PackageReference: TLA04AMA; Publisher: Altium Limited; PackageDescription: Thin Micro SMD, 4 Bump (Large), 0.5mm Pitch; RoHS: Y; PinCount: 4; DigiKeyPartNumber: LP3990TL-0.8CT-ND; Code_JEDEC: MO-211-BA; ComponentLink1Description: LP3990 Datasheet; ComponentLink1URL: http://www.national.com/ds/LP/LP3990.pdf; ComponentLink2Description: LP3990 Web Page; ComponentLink2URL: http://www.national.com/pf/LP/LP3990.html; ComponentLink3Description: TLA04AMA Package Page; ComponentLink3URL: http://www.national.com/packaging/folders/tla04ama.html
footprint TLA04AMA (Micro SMD, 4-Leads, Body 1.29x1.01mm, Pitch 0.5mm, NSC Recommended)
pins: A1 GND (power), A2 EN (in), B1 OUT (power), B2 IN (power)

## LP3990TL-1.2
designator U?
150mA Linear Voltage Regulator for Digital Applications; PartNumber: LP3990TL-1.2; Manufacturer: National Semiconductor; CompType: LDO IC; PackageTopMarking: X*I; Published: 4-Dec-2008; DatasheetVersion: Oct-2005; PackageVersion: revD, Mar-2005; PackageReference: TLA04AMA; Publisher: Altium Limited; PackageDescription: Thin Micro SMD, 4 Bump (Large), 0.5mm Pitch; RoHS: Y; PinCount: 4; DigiKeyPartNumber: LP3990TL-1.2CT-ND; Code_JEDEC: MO-211-BA; ComponentLink1Description: LP3990 Datasheet; ComponentLink1URL: http://www.national.com/ds/LP/LP3990.pdf; ComponentLink2Description: LP3990 Web Page; ComponentLink2URL: http://www.national.com/pf/LP/LP3990.html; ComponentLink3Description: TLA04AMA Package Page; ComponentLink3URL: http://www.national.com/packaging/folders/tla04ama.html
footprint TLA04AMA (Micro SMD, 4-Leads, Body 1.29x1.01mm, Pitch 0.5mm, NSC Recommended)
pins: A1 GND (power), A2 EN (in), B1 OUT (power), B2 IN (power)

## LP3990TL-1.5
designator U?
150mA Linear Voltage Regulator for Digital Applications; PartNumber: LP3990TL-1.5; Manufacturer: National Semiconductor; CompType: LDO IC; PackageTopMarking: X*I; Published: 4-Dec-2008; DatasheetVersion: Oct-2005; PackageVersion: revD, Mar-2005; PackageReference: TLA04AMA; Publisher: Altium Limited; PackageDescription: Thin Micro SMD, 4 Bump (Large), 0.5mm Pitch; RoHS: Y; PinCount: 4; DigiKeyPartNumber: LP3990TL-1.5CT-ND; Code_JEDEC: MO-211-BA; ComponentLink1Description: LP3990 Datasheet; ComponentLink1URL: http://www.national.com/ds/LP/LP3990.pdf; ComponentLink2Description: LP3990 Web Page; ComponentLink2URL: http://www.national.com/pf/LP/LP3990.html; ComponentLink3Description: TLA04AMA Package Page; ComponentLink3URL: http://www.national.com/packaging/folders/tla04ama.html
footprint TLA04AMA (Micro SMD, 4-Leads, Body 1.29x1.01mm, Pitch 0.5mm, NSC Recommended)
pins: A1 GND (power), A2 EN (in), B1 OUT (power), B2 IN (power)

## LP3990TL-1.8
designator U?
150mA Linear Voltage Regulator for Digital Applications; PartNumber: LP3990TL-1.8; Manufacturer: National Semiconductor; CompType: LDO IC; PackageTopMarking: X*I; Published: 4-Dec-2008; DatasheetVersion: Oct-2005; PackageVersion: revD, Mar-2005; PackageReference: TLA04AMA; Publisher: Altium Limited; PackageDescription: Thin Micro SMD, 4 Bump (Large), 0.5mm Pitch; RoHS: Y; PinCount: 4; DigiKeyPartNumber: LP3990TL-1.8CT-ND; Code_JEDEC: MO-211-BA; ComponentLink1Description: LP3990 Datasheet; ComponentLink1URL: http://www.national.com/ds/LP/LP3990.pdf; ComponentLink2Description: LP3990 Web Page; ComponentLink2URL: http://www.national.com/pf/LP/LP3990.html; ComponentLink3Description: TLA04AMA Package Page; ComponentLink3URL: http://www.national.com/packaging/folders/tla04ama.html
footprint TLA04AMA (Micro SMD, 4-Leads, Body 1.29x1.01mm, Pitch 0.5mm, NSC Recommended)
pins: A1 GND (power), A2 EN (in), B1 OUT (power), B2 IN (power)

## LP3990TL-1.35
designator U?
150mA Linear Voltage Regulator for Digital Applications; PartNumber: LP3990TL-1.35; Manufacturer: National Semiconductor; CompType: LDO IC; PackageTopMarking: X*I; Published: 4-Dec-2008; DatasheetVersion: Oct-2005; PackageVersion: revD, Mar-2005; PackageReference: TLA04AMA; Publisher: Altium Limited; PackageDescription: Thin Micro SMD, 4 Bump (Large), 0.5mm Pitch; RoHS: Y; PinCount: 4; DigiKeyPartNumber: LP3990TL-1.35CT-ND; Code_JEDEC: MO-211-BA; ComponentLink1Description: LP3990 Datasheet; ComponentLink1URL: http://www.national.com/ds/LP/LP3990.pdf; ComponentLink2Description: LP3990 Web Page; ComponentLink2URL: http://www.national.com/pf/LP/LP3990.html; ComponentLink3Description: TLA04AMA Package Page; ComponentLink3URL: http://www.national.com/packaging/folders/tla04ama.html
footprint TLA04AMA (Micro SMD, 4-Leads, Body 1.29x1.01mm, Pitch 0.5mm, NSC Recommended)
pins: A1 GND (power), A2 EN (in), B1 OUT (power), B2 IN (power)

## LP3990TL-2.5
designator U?
150mA Linear Voltage Regulator for Digital Applications; PartNumber: LP3990TL-2.5; Manufacturer: National Semiconductor; CompType: LDO IC; PackageTopMarking: X*I; Published: 4-Dec-2008; DatasheetVersion: Oct-2005; PackageVersion: revD, Mar-2005; PackageReference: TLA04AMA; Publisher: Altium Limited; PackageDescription: Thin Micro SMD, 4 Bump (Large), 0.5mm Pitch; RoHS: Y; PinCount: 4; DigiKeyPartNumber: LP3990TL-2.5CT-ND; Code_JEDEC: MO-211-BA; ComponentLink1Description: LP3990 Datasheet; ComponentLink1URL: http://www.national.com/ds/LP/LP3990.pdf; ComponentLink2Description: LP3990 Web Page; ComponentLink2URL: http://www.national.com/pf/LP/LP3990.html; ComponentLink3Description: TLA04AMA Package Page; ComponentLink3URL: http://www.national.com/packaging/folders/tla04ama.html
footprint TLA04AMA (Micro SMD, 4-Leads, Body 1.29x1.01mm, Pitch 0.5mm, NSC Recommended)
pins: A1 GND (power), A2 EN (in), B1 OUT (power), B2 IN (power)

## LP3990TL-2.8
designator U?
150mA Linear Voltage Regulator for Digital Applications; PartNumber: LP3990TL-2.8; Manufacturer: National Semiconductor; CompType: LDO IC; PackageTopMarking: X*I; Published: 4-Dec-2008; DatasheetVersion: Oct-2005; PackageVersion: revD, Mar-2005; PackageReference: TLA04AMA; Publisher: Altium Limited; PackageDescription: Thin Micro SMD, 4 Bump (Large), 0.5mm Pitch; RoHS: Y; PinCount: 4; DigiKeyPartNumber: LP3990TL-2.8CT-ND; Code_JEDEC: MO-211-BA; ComponentLink1Description: LP3990 Datasheet; ComponentLink1URL: http://www.national.com/ds/LP/LP3990.pdf; ComponentLink2Description: LP3990 Web Page; ComponentLink2URL: http://www.national.com/pf/LP/LP3990.html; ComponentLink3Description: TLA04AMA Package Page; ComponentLink3URL: http://www.national.com/packaging/folders/tla04ama.html
footprint TLA04AMA (Micro SMD, 4-Leads, Body 1.29x1.01mm, Pitch 0.5mm, NSC Recommended)
pins: A1 GND (power), A2 EN (in), B1 OUT (power), B2 IN (power)

## LP3992IMF-1.5
designator U?
Micropower 1.5V CMOS Voltage Regulator with Shutdown Control; PartNumber: LP3992IMF-1.5; Manufacturer: National Semiconductor; CompType: LDO IC; PackageTopMarking: LFHB*XTT; Published: 4-Dec-2008; DatasheetVersion: Dec-2002; PackageVersion: revD, Aug-2008; PackageReference: MF05A; Publisher: Altium Limited; PackageDescription: Molded SOT-23, .115 x .063 x .040 in Body, 5 Lead, .0375 in Pitch; RoHS: O; PinCount: 5; DigiKeyPartNumber: LP3992IMF-1.5CT-ND; Code_IPC: SOT23-5; ComponentLink1Description: LP3992 Datasheet; ComponentLink1URL: http://www.national.com/ds/LP/LP3992.pdf; ComponentLink2Description: LP3992 Web Page; ComponentLink2URL: http://www.national.com/pf/LP/LP3992.html; ComponentLink3Description: MF05A Package Page; ComponentLink3URL: http://www.national.com/packaging/folders/mf05a.html
footprint MF05A_N (SOT23, 5-Leads, Body 2.9x1.6mm, Pitch 0.95mm, Lead Span 2.8mm, IPC Medium Density)
footprint MF05A_L (SOT23, 5-Leads, Body 2.9x1.6mm, Pitch 0.95mm, Lead Span 2.8mm, IPC High Density)
footprint MF05A_M (SOT23, 5-Leads, Body 2.9x1.6mm, Pitch 0.95mm, Lead Span 2.8mm, IPC Low Density)
pins: 1 IN (power), 2 GND (power), 3 ~{SD} (in), 4 COUT, 5 OUT (power)

## LP3995ILD-1.5
designator U?
Micropower 150mA CMOS Voltage Regulator with Active Shutdown.; PartNumber: LP3995ILD-1.5; Manufacturer: National Semiconductor; CompType: LDO IC; PackageTopMarking: ZXYTT*L020B; Published: 4-Dec-2008; DatasheetVersion: Jan-2008; PackageVersion: revA, Jul-2001; PackageReference: LDE06A; Publisher: Altium Limited; PackageDescription: LLP, Plastic, Dual, 2.92 x 3.29 x 0.75mm Body, 6 Lead, 0.95mm Pitch, SOT23 Land; RoHS: Y; PinCount: 6; DigiKeyPartNumber: LP3995ILD-1.5CT-ND; ComponentLink1Description: LP3995 Datasheet; ComponentLink1URL: http://www.national.com/ds/LP/LP3995.pdf; ComponentLink2Description: LP3995 Web Page; ComponentLink2URL: http://www.national.com/pf/LP/LP3995.html; ComponentLink3Description: LDE06A Package Page; ComponentLink3URL: http://www.national.com/packaging/folders/lde06a.html
footprint LDE06A (PSON, 6-Leads, Body 2.92x3.29 mm, Pitch 0.95mm, NSC Recommended)
pins: 1 IN (power), 2 GND (power), 3 EN (in), 4 CBYP, 5 NC, 6 OUT (power), 7 DAP (power)

## LP3995ILD-1.6
designator U?
Micropower 150mA CMOS Voltage Regulator with Active Shutdown.; PartNumber: LP3995ILD-1.6; Manufacturer: National Semiconductor; CompType: LDO IC; PackageTopMarking: ZXYTT*L021B; Published: 4-Dec-2008; DatasheetVersion: Jan-2008; PackageVersion: revA, Jul-2001; PackageReference: LDE06A; Publisher: Altium Limited; PackageDescription: LLP, Plastic, Dual, 2.92 x 3.29 x 0.75mm Body, 6 Lead, 0.95mm Pitch, SOT23 Land; RoHS: Y; PinCount: 6; DigiKeyPartNumber: LP3995ILD-1.6CT-ND; ComponentLink1Description: LP3995 Datasheet; ComponentLink1URL: http://www.national.com/ds/LP/LP3995.pdf; ComponentLink2Description: LP3995 Web Page; ComponentLink2URL: http://www.national.com/pf/LP/LP3995.html; ComponentLink3Description: LDE06A Package Page; ComponentLink3URL: http://www.national.com/packaging/folders/lde06a.html
footprint LDE06A (PSON, 6-Leads, Body 2.92x3.29 mm, Pitch 0.95mm, NSC Recommended)
pins: 1 IN (power), 2 GND (power), 3 EN (in), 4 CBYP, 5 NC, 6 OUT (power), 7 DAP (power)

## LP3995ILD-1.8
designator U?
Micropower 150mA CMOS Voltage Regulator with Active Shutdown.; PartNumber: LP3995ILD-1.8; Manufacturer: National Semiconductor; CompType: LDO IC; PackageTopMarking: ZXYTT*L022B; Published: 4-Dec-2008; DatasheetVersion: Jan-2008; PackageVersion: revA, Jul-2001; PackageReference: LDE06A; Publisher: Altium Limited; PackageDescription: LLP, Plastic, Dual, 2.92 x 3.29 x 0.75mm Body, 6 Lead, 0.95mm Pitch, SOT23 Land; RoHS: Y; PinCount: 6; DigiKeyPartNumber: LP3995ILD-1.8CT-ND; ComponentLink1Description: LP3995 Datasheet; ComponentLink1URL: http://www.national.com/ds/LP/LP3995.pdf; ComponentLink2Description: LP3995 Web Page; ComponentLink2URL: http://www.national.com/pf/LP/LP3995.html; ComponentLink3Description: LDE06A Package Page; ComponentLink3URL: http://www.national.com/packaging/folders/lde06a.html
footprint LDE06A (PSON, 6-Leads, Body 2.92x3.29 mm, Pitch 0.95mm, NSC Recommended)
pins: 1 IN (power), 2 GND (power), 3 EN (in), 4 CBYP, 5 NC, 6 OUT (power), 7 DAP (power)

## LP3995ILD-2.8
designator U?
Micropower 150mA CMOS Voltage Regulator with Active Shutdown.; PartNumber: LP3995ILD-2.8; Manufacturer: National Semiconductor; CompType: LDO IC; PackageTopMarking: ZXYTT*L026B; Published: 4-Dec-2008; DatasheetVersion: Jan-2008; PackageVersion: revA, Jul-2001; PackageReference: LDE06A; Publisher: Altium Limited; PackageDescription: LLP, Plastic, Dual, 2.92 x 3.29 x 0.75mm Body, 6 Lead, 0.95mm Pitch, SOT23 Land; RoHS: Y; PinCount: 6; DigiKeyPartNumber: LP3995ILD-2.8CT-ND; ComponentLink1Description: LP3995 Datasheet; ComponentLink1URL: http://www.national.com/ds/LP/LP3995.pdf; ComponentLink2Description: LP3995 Web Page; ComponentLink2URL: http://www.national.com/pf/LP/LP3995.html; ComponentLink3Description: LDE06A Package Page; ComponentLink3URL: http://www.national.com/packaging/folders/lde06a.html
footprint LDE06A (PSON, 6-Leads, Body 2.92x3.29 mm, Pitch 0.95mm, NSC Recommended)
pins: 1 IN (power), 2 GND (power), 3 EN (in), 4 CBYP, 5 NC, 6 OUT (power), 7 DAP (power)

## LP3995ILD-3.0
designator U?
Micropower 150mA CMOS Voltage Regulator with Active Shutdown.; PartNumber: LP3995ILD-3.0; Manufacturer: National Semiconductor; CompType: LDO IC; PackageTopMarking: ZXYTT*L030B; Published: 4-Dec-2008; DatasheetVersion: Jan-2008; PackageVersion: revA, Jul-2001; PackageReference: LDE06A; Publisher: Altium Limited; PackageDescription: LLP, Plastic, Dual, 2.92 x 3.29 x 0.75mm Body, 6 Lead, 0.95mm Pitch, SOT23 Land; RoHS: Y; PinCount: 6; DigiKeyPartNumber: LP3995ILD-3.0CT-ND; ComponentLink1Description: LP3995 Datasheet; ComponentLink1URL: http://www.national.com/ds/LP/LP3995.pdf; ComponentLink2Description: LP3995 Web Page; ComponentLink2URL: http://www.national.com/pf/LP/LP3995.html; ComponentLink3Description: LDE06A Package Page; ComponentLink3URL: http://www.national.com/packaging/folders/lde06a.html
footprint LDE06A (PSON, 6-Leads, Body 2.92x3.29 mm, Pitch 0.95mm, NSC Recommended)
pins: 1 IN (power), 2 GND (power), 3 EN (in), 4 CBYP, 5 NC, 6 OUT (power), 7 DAP (power)

## LP3995ITL-1.5
designator U?
Micropower 150mA CMOS Voltage Regulator with Active Shutdown.; PartNumber: LP3995ITL-1.5; Manufacturer: National Semiconductor; CompType: LDO IC; PackageTopMarking: XV*I 9; Published: 4-Dec-2008; DatasheetVersion: Jan-2008; PackageVersion: revC, Feb-2005; PackageReference: TLA05ADA; Publisher: Altium Limited; PackageDescription: Thin Micro SMD, 5 Bump (Large), 0.5mm Pitch; RoHS: Y; PinCount: 5; DigiKeyPartNumber: LP3995ITL-1.5CT-ND; ComponentLink1Description: LP3995 Datasheet; ComponentLink1URL: http://www.national.com/ds/LP/LP3995.pdf; ComponentLink2Description: LP3995 Web Page; ComponentLink2URL: http://www.national.com/pf/LP/LP3995.html; ComponentLink3Description: TLA05ADA Package Page; ComponentLink3URL: http://www.national.com/packaging/folders/tla05ada.html
footprint TLA05ADA (Micro SMD, 5-Leads, Body 1.45x1.01mm, Pitch 0.5mm, NSC Recommended)
pins: A1 EN (in), A3 BYP, B2 GND (power), C1 OUT (power), C3 IN (power)

## LP3995ITL-1.6
designator U?
Micropower 150mA CMOS Voltage Regulator with Active Shutdown.; PartNumber: LP3995ITL-1.6; Manufacturer: National Semiconductor; CompType: LDO IC; PackageTopMarking: XV*I 9; Published: 4-Dec-2008; DatasheetVersion: Jan-2008; PackageVersion: revC, Feb-2005; PackageReference: TLA05ADA; Publisher: Altium Limited; PackageDescription: Thin Micro SMD, 5 Bump (Large), 0.5mm Pitch; RoHS: Y; PinCount: 5; DigiKeyPartNumber: LP3995ITL-1.6CT-ND; ComponentLink1Description: LP3995 Datasheet; ComponentLink1URL: http://www.national.com/ds/LP/LP3995.pdf; ComponentLink2Description: LP3995 Web Page; ComponentLink2URL: http://www.national.com/pf/LP/LP3995.html; ComponentLink3Description: TLA05ADA Package Page; ComponentLink3URL: http://www.national.com/packaging/folders/tla05ada.html
footprint TLA05ADA (Micro SMD, 5-Leads, Body 1.45x1.01mm, Pitch 0.5mm, NSC Recommended)
pins: A1 EN (in), A3 BYP, B2 GND (power), C1 OUT (power), C3 IN (power)

## LP3995ITL-1.8
designator U?
Micropower 150mA CMOS Voltage Regulator with Active Shutdown.; PartNumber: LP3995ITL-1.8; Manufacturer: National Semiconductor; CompType: LDO IC; PackageTopMarking: XV*I 9; Published: 4-Dec-2008; DatasheetVersion: Jan-2008; PackageVersion: revC, Feb-2005; PackageReference: TLA05ADA; Publisher: Altium Limited; PackageDescription: Thin Micro SMD, 5 Bump (Large), 0.5mm Pitch; RoHS: Y; PinCount: 5; DigiKeyPartNumber: LP3995ITL-1.8CT-ND; ComponentLink1Description: LP3995 Datasheet; ComponentLink1URL: http://www.national.com/ds/LP/LP3995.pdf; ComponentLink2Description: LP3995 Web Page; ComponentLink2URL: http://www.national.com/pf/LP/LP3995.html; ComponentLink3Description: TLA05ADA Package Page; ComponentLink3URL: http://www.national.com/packaging/folders/tla05ada.html
footprint TLA05ADA (Micro SMD, 5-Leads, Body 1.45x1.01mm, Pitch 0.5mm, NSC Recommended)
pins: A1 EN (in), A3 BYP, B2 GND (power), C1 OUT (power), C3 IN (power)

## LP3995ITL-1.9
designator U?
Micropower 150mA CMOS Voltage Regulator with Active Shutdown.; PartNumber: LP3995ITL-1.9; Manufacturer: National Semiconductor; CompType: LDO IC; PackageTopMarking: XV*I 9; Published: 4-Dec-2008; DatasheetVersion: Jan-2008; PackageVersion: revC, Feb-2005; PackageReference: TLA05ADA; Publisher: Altium Limited; PackageDescription: Thin Micro SMD, 5 Bump (Large), 0.5mm Pitch; RoHS: Y; PinCount: 5; DigiKeyPartNumber: LP3995ITL-1.9CT-ND; ComponentLink1Description: LP3995 Datasheet; ComponentLink1URL: http://www.national.com/ds/LP/LP3995.pdf; ComponentLink2Description: LP3995 Web Page; ComponentLink2URL: http://www.national.com/pf/LP/LP3995.html; ComponentLink3Description: TLA05ADA Package Page; ComponentLink3URL: http://www.national.com/packaging/folders/tla05ada.html
footprint TLA05ADA (Micro SMD, 5-Leads, Body 1.45x1.01mm, Pitch 0.5mm, NSC Recommended)
pins: A1 EN (in), A3 BYP, B2 GND (power), C1 OUT (power), C3 IN (power)

## LP3995ITL-2.1
designator U?
Micropower 150mA CMOS Voltage Regulator with Active Shutdown.; PartNumber: LP3995ITL-2.1; Manufacturer: National Semiconductor; CompType: LDO IC; PackageTopMarking: XV*I 9; Published: 4-Dec-2008; DatasheetVersion: Jan-2008; PackageVersion: revC, Feb-2005; PackageReference: TLA05ADA; Publisher: Altium Limited; PackageDescription: Thin Micro SMD, 5 Bump (Large), 0.5mm Pitch; RoHS: Y; PinCount: 5; DigiKeyPartNumber: LP3995ITL-2.1CT-ND; ComponentLink1Description: LP3995 Datasheet; ComponentLink1URL: http://www.national.com/ds/LP/LP3995.pdf; ComponentLink2Description: LP3995 Web Page; ComponentLink2URL: http://www.national.com/pf/LP/LP3995.html; ComponentLink3Description: TLA05ADA Package Page; ComponentLink3URL: http://www.national.com/packaging/folders/tla05ada.html
footprint TLA05ADA (Micro SMD, 5-Leads, Body 1.45x1.01mm, Pitch 0.5mm, NSC Recommended)
pins: A1 EN (in), A3 BYP, B2 GND (power), C1 OUT (power), C3 IN (power)

## LP3995ITL-2.5
designator U?
Micropower 150mA CMOS Voltage Regulator with Active Shutdown.; PartNumber: LP3995ITL-2.5; Manufacturer: National Semiconductor; CompType: LDO IC; PackageTopMarking: XV*I 9; Published: 4-Dec-2008; DatasheetVersion: Jan-2008; PackageVersion: revC, Feb-2005; PackageReference: TLA05ADA; Publisher: Altium Limited; PackageDescription: Thin Micro SMD, 5 Bump (Large), 0.5mm Pitch; RoHS: Y; PinCount: 5; DigiKeyPartNumber: LP3995ITL-2.5CT-ND; ComponentLink1Description: LP3995 Datasheet; ComponentLink1URL: http://www.national.com/ds/LP/LP3995.pdf; ComponentLink2Description: LP3995 Web Page; ComponentLink2URL: http://www.national.com/pf/LP/LP3995.html; ComponentLink3Description: TLA05ADA Package Page; ComponentLink3URL: http://www.national.com/packaging/folders/tla05ada.html
footprint TLA05ADA (Micro SMD, 5-Leads, Body 1.45x1.01mm, Pitch 0.5mm, NSC Recommended)
pins: A1 EN (in), A3 BYP, B2 GND (power), C1 OUT (power), C3 IN (power)

## LP3995ITL-2.8
designator U?
Micropower 150mA CMOS Voltage Regulator with Active Shutdown.; PartNumber: LP3995ITL-2.8; Manufacturer: National Semiconductor; CompType: LDO IC; PackageTopMarking: XV*I 9; Published: 4-Dec-2008; DatasheetVersion: Jan-2008; PackageVersion: revC, Feb-2005; PackageReference: TLA05ADA; Publisher: Altium Limited; PackageDescription: Thin Micro SMD, 5 Bump (Large), 0.5mm Pitch; RoHS: Y; PinCount: 5; DigiKeyPartNumber: LP3995ITL-2.8CT-ND; ComponentLink1Description: LP3995 Datasheet; ComponentLink1URL: http://www.national.com/ds/LP/LP3995.pdf; ComponentLink2Description: LP3995 Web Page; ComponentLink2URL: http://www.national.com/pf/LP/LP3995.html; ComponentLink3Description: TLA05ADA Package Page; ComponentLink3URL: http://www.national.com/packaging/folders/tla05ada.html
footprint TLA05ADA (Micro SMD, 5-Leads, Body 1.45x1.01mm, Pitch 0.5mm, NSC Recommended)
pins: A1 EN (in), A3 BYP, B2 GND (power), C1 OUT (power), C3 IN (power)